# Altium schematic symbol library IRS2186STRPBF.SchLib: 1 symbol
Pins are listed as number, name and electrical type; pins without a type are passive.

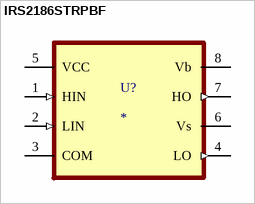
[diagram p0: symbol IRS2186STRPBF]

## IRS2186STRPBF
designator U?
Floating channel designed for bootstrap operation | Fully operational to +600 V | Tolerant to negative transient voltage, dV/dt immune | Gate drive supply range from 10 V to 20 V | Undervoltage lockout for both channels | 3.3 V and 5 V input logic compatible | Matched propagation delay for both channels | Logic and power ground +/- 5 V offset | Lower di/dt gate driver for better noise immunity | Output source/sink current capability 4 A/4 A; MP: IRS2186STRPBF; MF: Infineon; Price: None; Availability: Good; Check_prices: https://www.snapeda.com/parts/IRS2186STRPBF/Infineon%20Technologies/view-part/563209/?ref=eda; Package: SOIC-8 Infineon; SnapEDA_Link: https://www.snapeda.com/parts/IRS2186STRPBF/Infineon%20Technologies/view-part/563209/?ref=snap; Value: *; Purchase-URL: https://pricing.snapeda.com/search/part/IRS2186STRPBF/?ref=eda
footprint SOIC127P600X175-8N
pins: 1 HIN (in), 2 LIN (in), 3 COM, 4 LO (out), 5 VCC (power), 6 Vs (power), 7 HO (out), 8 Vb (power)